# EAGLE library part RF-XBEE-GPS (library p.peter-periphery)
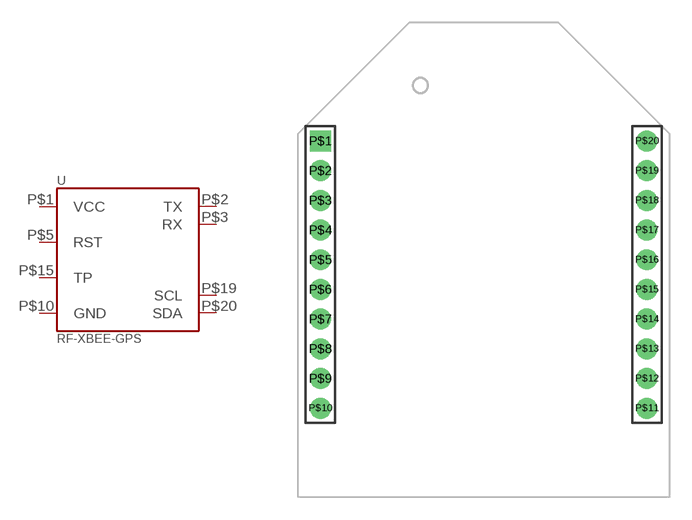
[diagram p7: symbol with the pads of RF-XBEE-DEFAULT; footprint RF-XBEE-DEFAULT]

Designator prefix -

## RF-XBEE-GPS  [RF-XBEE-DEFAULT]
P$1  VCC
P$2  TX
P$3  RX
P$5  RST
P$10  GND
P$15  TP
P$19  SCL
P$20  SDA

## Footprint RF-XBEE-DEFAULT (pad centres in mm)
drill 0.9 square: P$1 -11,9
drill 0.9: P$2 -11,7; P$3 -11,5; P$4 -11,3; P$5 -11,1; P$6 -11,-1; P$7 -11,-3; P$8 -11,-5; P$9 -11,-7; P$10 -11,-9; P$11 11,-9; P$12 11,-7; P$13 11,-5; P$14 11,-3; P$15 11,-1; P$16 11,1; P$17 11,3; P$18 11,5; P$19 11,7; P$20 11,9